# Altium footprint library DPAK_L.PcbLib: 35 footprints (part 3 of 3)
Each footprint in its own frame and in the unit in brackets; x right, y up, seen from the top. Pads: shape width x height; smd on the part's side, far side on the other; paste and mask are expansions set on the pad; w line width, h text height; cw(c..) or ccw(c..) is an arc to the next point about the centre after c.
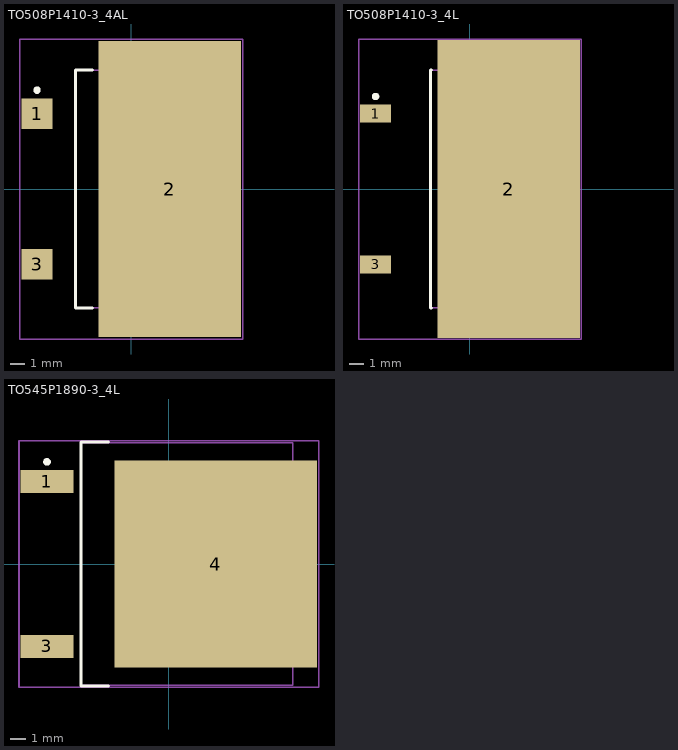
[diagram p2: the footprints below, top view; thin cyan lines are the x and y axes]

## TO508P1410-3_4AL [mm] "Single-Ended SM Package, 4-Leads, Body 10.6x16mm, Pitch 5.08mm, Lead Span 14.1mm, IPC High Density"
height 5.97
pads (3):
  rect 2.1x2.05 smd: 1(-6.35,5.08) 3(-6.35,-5.08)
  rect 9.6x19.95 smd: 2(2.6,0)
Top Overlay:
  circle w0.25: c-6.35,6.655 r0.125
  lines w0.2: -2.6,-8 -3.75,-8 -3.75,8 -2.6,8
Mechanical 13:
  lines w0.1: -3.75,-8 7.04,-8 7.04,8 -3.75,8 -3.75,-8
Mechanical 15:
  lines w0.1: -0.5,0 0.5,0 ; 0,-0.5 0,0.5 ; -7.5,-10.1 7.5,-10.1 7.5,10.1 -7.5,10.1 -7.5,-10.1
3D body: height 5.97, standoff 0, extent -3.75,-8 7.04,8

## TO508P1410-3_4L [mm] "Single-Ended SM Package, 4-Leads, Body 9.5x16mm, Pitch 5.08mm, Lead Span 14.1mm, IPC High Density"
height 6
pads (3):
  rect 2.1x1.2 smd: 1(-6.35,5.08) 3(-6.35,-5.08)
  rect 9.6x20.05 smd: 2(2.6,0)
Top Overlay:
  circle w0.25: c-6.35,6.23 r0.125
  lines w0.2: -2.6,-8 -2.65,-8 -2.65,8 -2.6,8
Mechanical 13:
  lines w0.1: -2.65,-8 -2.65,8 7,8 7,-8 -2.65,-8
Mechanical 15:
  lines w0.1: -0.5,0 0.5,0 ; 0,-0.5 0,0.5 ; -7.5,-10.1 -7.5,10.1 7.5,10.1 7.5,-10.1 -7.5,-10.1
3D body: height 6, standoff 0, extent -2.65,-8 7,8

## TO545P1890-3_4L [mm] "D3-PAK, 4-Leads, Body 13.9x16mm, Pitch 5.45mm, Lead Span 18.9mm, IPC High Density"
height 5.1
pads (3):
  rect 3.5x1.5 smd: 1(-8.05,5.45) 3(-8.05,-5.45)
  rect 13.4x13.65 smd: 4(3.1,0)
Top Overlay:
  circle w0.25: c-8.05,6.75 r0.125
  lines w0.2: -4,-8.05 -5.8,-8.05 -5.8,8.05 -4,8.05
Mechanical 13:
  lines w0.1: -5.8,-8.025 -5.8,8.025 8.2,8.025 8.2,-8.025 -5.8,-8.025
Mechanical 15:
  lines w0.1: -0.5,0 0.5,0 ; 0,-0.5 0,0.5 ; -9.9,-8.15 -9.9,8.15 9.9,8.15 9.9,-8.15 -9.9,-8.15
3D body: height 5.1, standoff 0, extent -5.8,-8.025 8.2,8.025